# EAGLE library part 25LCXX (library telemetry-board)
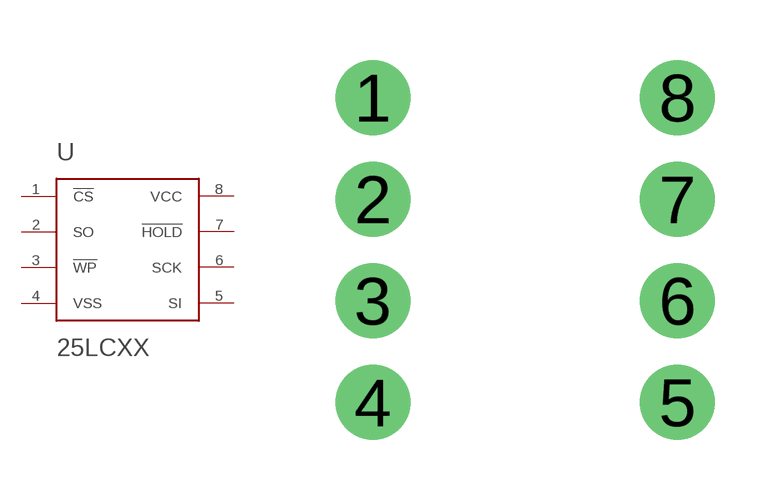
[diagram p4: symbol with the pads of DIP-2X4; footprint DIP-2X4]

Designator prefix -

## 25LCXX  [DIP-2X4]
1  !CS  pwr
2  SO  pwr
3  !WP  pwr
4  VSS  pwr
5  SI  pwr
6  SCK  pwr
7  !HOLD  pwr
8  VCC  pwr

## Footprint DIP-2X4 (pad centres in mm)
drill 1.016 pad 1.88: 1 -3.81,3.81; 2 -3.81,1.27; 3 -3.81,-1.27; 4 -3.81,-3.81; 5 3.81,-3.81; 6 3.81,-1.27; 7 3.81,1.27; 8 3.81,3.81